# Altium schematic symbol library 2020-06-19_14-54-17.SchLib: 2 symbols
Pins are listed as number, name and electrical type; pins without a type are passive.

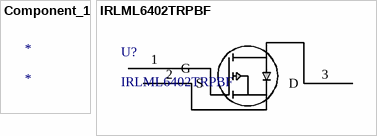
[diagram p0: symbols Component_1 to IRLML6402TRPBF]

## Component_1
designator *

## IRLML6402TRPBF
designator U?
No Description Available; Source_Library: Infineon_2020-02-27.xlr; Built_By: EMA_Justin; SourceLibrary: Infineon_2020-02-27; Vendor: Infineon; Copyright: Copyright (C) 2018 Accelerated Designs. All rights reserved; Manufacturer_Part_Number: IRLML6402TRPBF; RefDes: RefDes; Type: DEV
footprint SOT23_INF
pins: 1 G, 2 S, 3 D